# Altium footprint library 飞思卡尔封装库.PcbLib: 22 footprints (part 1 of 2)
Each footprint in its own frame and in the unit in brackets; x right, y up, seen from the top. Pads: shape width x height; smd on the part's side, far side on the other; paste and mask are expansions set on the pad; w line width, h text height; cw(c..) or ccw(c..) is an arc to the next point about the centre after c.
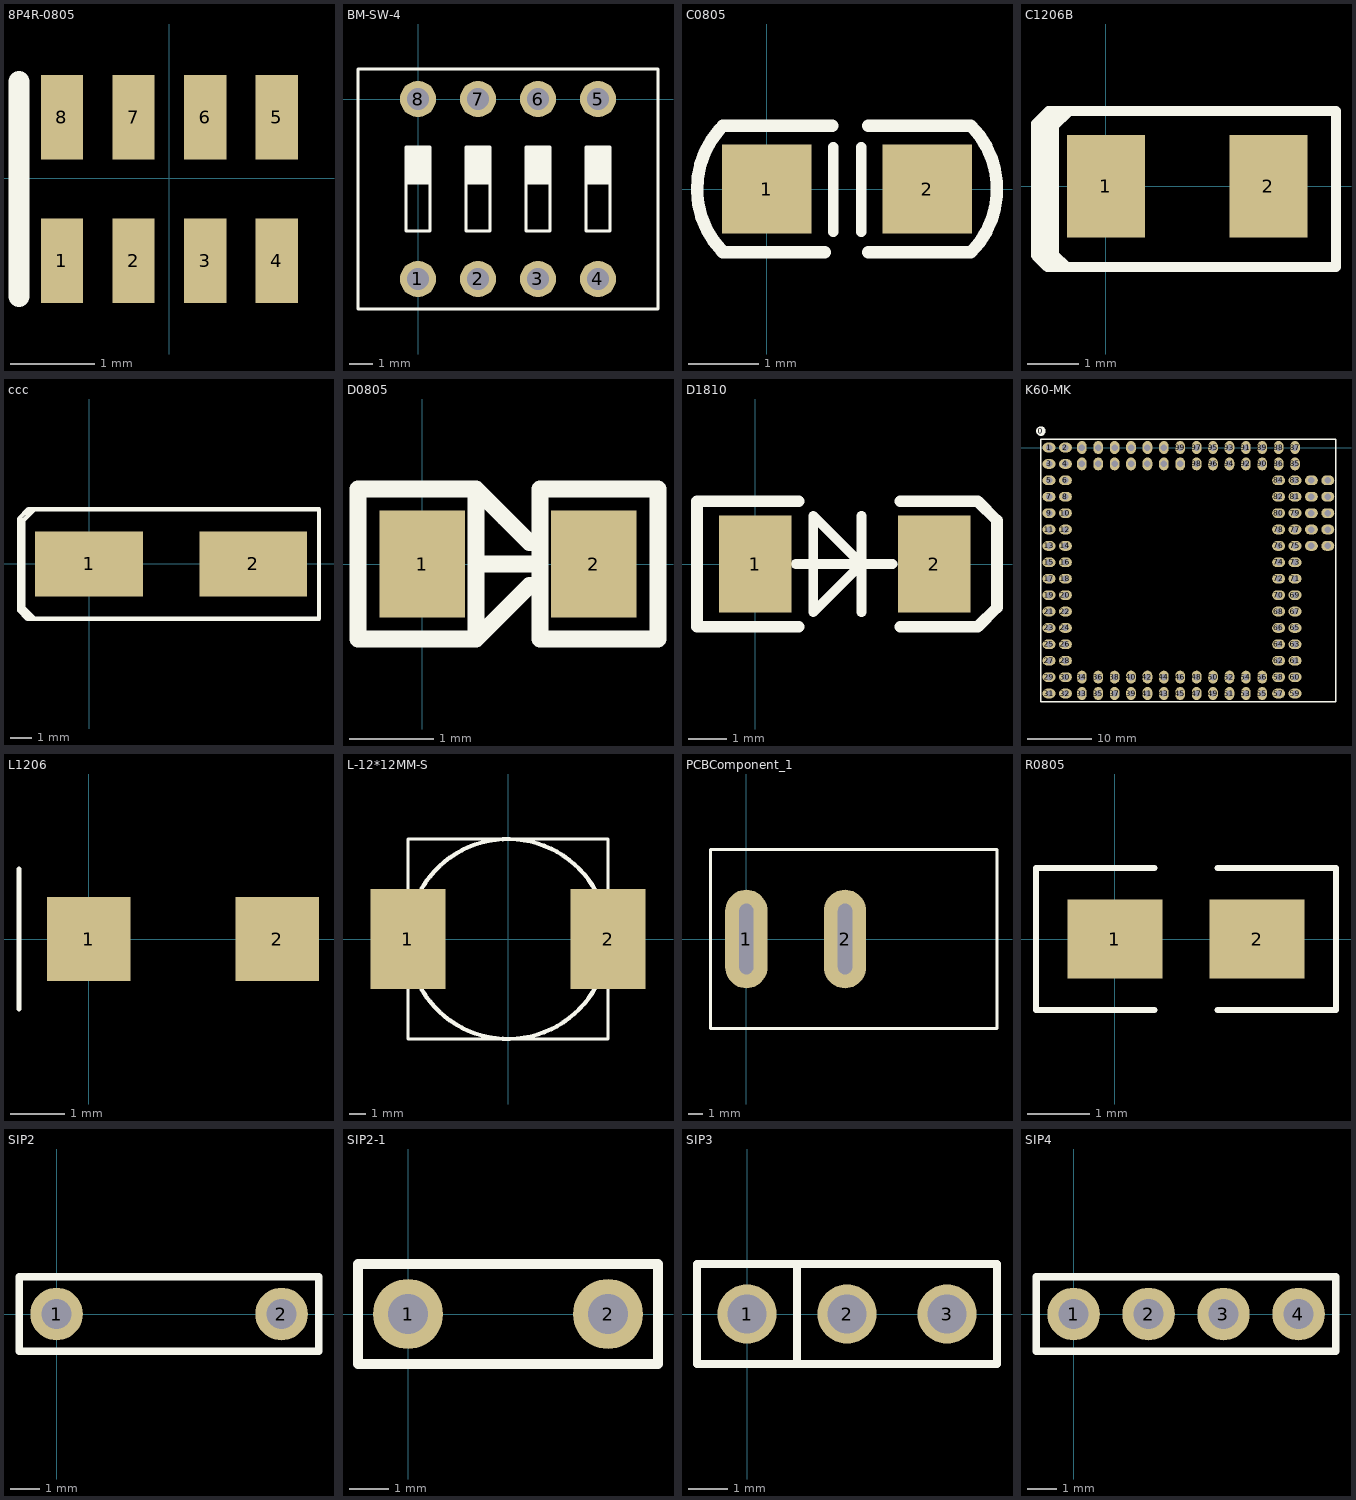
[diagram p0: the footprints below, top view; thin cyan lines are the x and y axes]

## 8P4R-0805 [mm]
pads (8):
  rect 0.5x1 smd: 1(-1.27,-0.974) 2(-0.423,-0.974) 3(0.423,-0.974) 4(1.27,-0.974) 5(1.27,0.72) 6(0.423,0.72) 7(-0.423,0.72) 8(-1.27,0.72)
Top Overlay:
  lines w0.254: -1.778,-1.397 -1.778,1.143

## BM-SW-4 [mil]
pads (8):
  round 60 hole 36: 1(0,-300) 2(100,-300) 3(200,-300) 4(300,-300) 5(300,0) 6(200,0) 7(100,0) 8(0,0)
Top Overlay:
  rectangle: 280,-140 320,-80
  rectangle: -20,-140 20,-80
  rectangle: 80,-140 120,-80
  rectangle: 180,-140 220,-80
  rectangle: 280,-140 320,-80
  lines w5: -20,-140 20,-140 ; 80,-140 120,-140 ; 180,-140 220,-140 ; 200,-350 400,-350 ; 200,50 400,50 ; 280,-220 280,-80 ; 280,-220 320,-220 ; 280,-220 280,-80 ; 280,-220 320,-220 ; 280,-80 320,-80 ; 280,-80 320,-80 ; 320,-220 320,-80 ; 320,-220 320,-80 ; 400,-350 400,50 ; 400,-350 -100,-350 -100,50 400,50 ; -20,-220 -20,-80 20,-80 20,-220 -20,-220 ; 80,-220 80,-80 120,-80 120,-220 80,-220 ; 180,-220 180,-80 220,-80 220,-220 180,-220 ; 280,-140 320,-140 280,-140

## C0805 [mil]
pads (2):
  rect 50x50 smd: 1(0,0) 2(90,0)
Top Overlay:
  lines w5.91: 37.25,-23.83 37.25,23.41 ; 53,-23.83 53,23.41
  lines w7: -26.39,33.35 ccw(c11.26,0) -25.09,-34.77 ; -24.64,-35.43 32.48,-35.43 ; -24.64,35.43 36.61,35.43 ; 56.82,-35.43 114.17,-35.43 ; 56.82,35.43 114.17,35.43 ; 114.31,-35.57 ccw(c78.74,0) 114.31,35.57
3D body: height 47.24, standoff 0, extent 6,-24 84.74,23.24

## C1206B [mil]
pads (2):
  rect 60x78.74 smd: 1(0,0) 2(125,0)
Top Overlay:
  lines w1: -39.37,-39.37 -39.37,39.37
  lines w8: -53.82,-47.64 -53.82,44.25 -47.74,47.24 -47.74,-55.12 -45,-60 -45,55 -42,58 ; -53.82,-38 -53.82,-53.18 -45,-62 ; -40,-29 -40,-52.5 -30.5,-62 ; -40,24 -40,46.5 -28.5,58 ; 84,58 174,58 177,58 177,-62 175,-62 85,-62 ; 107.5,58 33,58 -42,58 ; 109.5,-62 31,-62 -44,-62 -45,-62 ; -45,-62 -43,-62 ; -45,-62 -43,-62 ; -44,58 -42,58 ; -44,58 -42,58 ; -44,58 -53.82,48.18 -53.82,-51.18 -43,-62 ; -44,58 -40,58 -40,-59 -43,-62
3D body: height 37.4, standoff 0, extent 1,-32 126.98,30.99

## ccc [mm]
pads (2):
  rect 5x3 smd: 1(0,0) 2(7.62,0)
Top Overlay:
  lines w0.203: -3.251,-1.956 -3.251,-2.108 -3.175,-2.032 -3.048,-2.032 ; -3.251,2.108 -3.175,2.032 -3.048,2.032 ; -3.251,2.108 -2.819,2.54 -2.54,2.54 ; -3.251,2.108 -3.251,2.007 -3.251,-2.159 -2.87,-2.54 ; -3.048,-2.032 -3.175,-2.159 -2.921,-2.159 -3.038,-2.276 -2.804,-2.276 -2.87,-2.342 -2.87,-2.54 ; -3.048,-2.032 -3.048,2.032 ; -3.048,-2.032 -2.54,-2.54 ; -3.048,2.032 -2.54,2.54 ; -2.87,-2.54 -2.54,-2.54 ; -2.54,-2.54 10.668,-2.54 10.668,2.54 10.16,2.54 -2.54,2.54

## D0805 [mil]
pads (2):
  rect 40x50 smd: 1(0,0) 2(80,0)
Top Overlay:
  lines w7.87: 25,0 50,0 ; 31.09,28.91 31.52,28.48 ; 38.07,21.93 38.19,21.81 ; 50,-10 25,-35 ; 50,10 25,35 ; 55,-10 55,5 55,0 ; 25,-35 -30,-35 -30,35 25,35 ; 25,-35 25,35 ; 55,-35 110,-35 110,35 55,35 55,-35
3D body: height 33.45, standoff 0.23, extent -0.2,-16.84 81,18.84

## D1810 [mil]
pads (2):
  rect 75x100 smd: 1(0,0) 2(185,0)
Top Overlay:
  lines w10: 42,0 60,0 110,0 ; 110,-50 110,50 ; 142,0 110,0 ; 110,0 60,-50 60,50 110,0
  lines w12: 45,-65 -60,-65 -60,65 45,65 ; 150,-65 230,-65 250,-45 250,45 230,65 150,65
3D body: height 98.43, standoff 0, extent -18.24,-76 202.24,77.54

## K60-MK [mm]
pads (123):
  round 1.5 on Top Overlay: 0(16.51,2.54)
  oval 2x1.5 hole 1: 1(17.78,0) 2(20.32,0) 3(17.78,-2.54) 4(20.32,-2.54) 5(17.78,-5.08) 6(20.32,-5.08) 7(17.78,-7.62) 8(20.32,-7.62) 9(17.78,-10.16) 10(20.32,-10.16) 11(17.78,-12.7) 12(20.32,-12.7) 13(17.78,-15.24) 14(20.32,-15.24) 15(17.78,-17.78) 16(20.32,-17.78) 17(17.78,-20.32) 18(20.32,-20.32) 19(17.78,-22.86) 20(20.32,-22.86) 21(17.78,-25.4) 22(20.32,-25.4) 23(17.78,-27.94) 24(20.32,-27.94) 25(17.78,-30.48) 26(20.32,-30.48) 27(17.78,-33.02) 28(20.32,-33.02) 29(17.78,-35.56) 30(20.32,-35.56) 31(17.78,-38.1) 32(20.32,-38.1) 57(53.34,-38.1) 58(53.34,-35.56) 59(55.88,-38.1) 60(55.88,-35.56) 61(55.88,-33.02) 62(53.34,-33.02) 63(55.88,-30.48) 64(53.34,-30.48) 65(55.88,-27.94) 66(53.34,-27.94) 67(55.88,-25.4) 68(53.34,-25.4) 69(55.88,-22.86) 70(53.34,-22.86) 71(55.88,-20.32) 72(53.34,-20.32) 73(55.88,-17.78) 74(53.34,-17.78) 75(55.88,-15.24) 76(53.34,-15.24) 77(55.88,-12.7) 78(53.34,-12.7) 79(55.88,-10.16) 80(53.34,-10.16) 81(55.88,-7.62) 82(53.34,-7.62) 83(55.88,-5.08) 84(53.34,-5.08) 113(58.42,-5.08) 114(60.96,-5.08) 115(58.42,-7.62) 116(60.96,-7.62) 117(58.42,-10.16) 118(60.96,-10.16) 119(58.42,-12.7) 120(60.96,-12.7) 121(58.42,-15.24) 122(60.96,-15.24)
  oval 1.5x2 hole 1: 33(22.86,-38.1) 34(22.86,-35.56) 35(25.4,-38.1) 36(25.4,-35.56) 37(27.94,-38.1) 38(27.94,-35.56) 39(30.48,-38.1) 40(30.48,-35.56) 41(33.02,-38.1) 42(33.02,-35.56) 43(35.56,-38.1) 44(35.56,-35.56) 45(38.1,-38.1) 46(38.1,-35.56) 47(40.64,-38.1) 48(40.64,-35.56) 49(43.18,-38.1) 50(43.18,-35.56) 51(45.72,-38.1) 52(45.72,-35.56) 53(48.26,-38.1) 54(48.26,-35.56) 55(50.8,-38.1) 56(50.8,-35.56) 85(55.88,-2.54) 86(53.34,-2.54) 87(55.88,0) 88(53.34,0) 89(50.8,0) 90(50.8,-2.54) 91(48.26,0) 92(48.26,-2.54) 93(45.72,0) 94(45.72,-2.54) 95(43.18,0) 96(43.18,-2.54) 97(40.64,0) 98(40.64,-2.54) 99(38.1,0) 100(38.1,-2.54) 101(35.56,0) 102(35.56,-2.54) 103(33.02,0) 104(33.02,-2.54) 105(30.48,0) 106(30.48,-2.54) 107(27.94,0) 108(27.94,-2.54) 109(25.4,0) 110(25.4,-2.54) 111(22.86,0) 112(22.86,-2.54)
Top Overlay:
  lines w0.203: 16.51,-39.37 16.51,1.27 62.23,1.27 62.23,-39.37 59.69,-39.37 16.51,-39.37

## L1206 [mil]
pads (2):
  rect 60x60 smd: 1(0,0) 2(135,0)
Top Overlay:
  lines w3.94: -50,-50 -50,50
3D body: height 43.31, standoff 0, extent 5.01,-32 130.99,30.99

## L-12*12MM-S [mm]
pads (2):
  rect 4.5x6 smd: 1(-6,0) 2(6,0)
Top Overlay:
  circle w0.254: c0,0 r6
  lines w0.2: -6,-3 -6,-6 6,-6 6,-3 ; -6,3 -6,6 6,6 6,3
3D body: height 8, standoff -0.2, extent -6.051,-5.944 5.949,6.056

## PCBComponent_1 [mm]
pads (2):
  oval 3x7 hole 1 slot 5 at 90 deg: 1(0,0) 2(7,0)
Top Overlay:
  lines w0.203: -2.54,-6.35 -2.54,6.35 17.78,6.35 17.78,-6.35 -2.54,-6.35

## R0805 [mil]
pads (2):
  rect 60x50 smd: 1(0,0) 2(90,0)
Top Overlay:
  lines w3.94: 25,-45 -50,-45 -50,45 25,45 ; 65,-45 140,-45 140,45 65,45
3D body: height 21.65, standoff 0, extent 6,-25 84.74,24.61

## SIP2 [mil]
pads (2):
  round 70 hole 40: 1(0,0) 2(300,0)
Top Overlay:
  lines w10: -50,-50 350,-50 350,50 -50,50 -50,-50

## SIP2-1 [mil]
pads (2):
  round 70 hole 40: 1(0,0) 2(200,0)
Top Overlay:
  lines w10: -50,-50 250,-50 250,50 -50,50 -50,-50

## SIP3 [mm]
pads (3):
  round 1.5 hole 1: 1(0,0) 2(2.54,0) 3(5.08,0)
Top Overlay:
  lines w0.203: 1.27,-1.27 1.27,1.27 ; -1.27,-1.27 6.35,-1.27 6.35,1.27 -1.27,1.27 -1.27,-1.27

## SIP4 [mil]
pads (4):
  round 70 hole 39.37: 1(0,0) 2(100,0) 3(200,0) 4(300,0)
Top Overlay:
  lines w10: -50,-50 350,-50 350,50 -50,50 -50,-50